# Altium schematic symbol library CONN_3.5MM_STEREO_DBL_VERT_TH.SchLib: 1 symbol
Pins are listed as number, name and electrical type; pins without a type are passive.

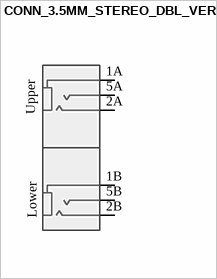
[diagram p0: symbol CONN_3.5MM_STEREO_DBL_VERT_TH]

## CONN_3.5MM_STEREO_DBL_VERT_TH
designator J?, comment 3.5mm DBL
3.50mm (0.141", 1/8", Mini Plug) - Headphone Phone Jack Stereo (3 Conductor, TRS) Connector Solder; Supplier 1: Digi-Key; Supplier Part Number 1: 2092-STX-4235-3/3-N-ND
footprint CONN_3.5MM_STEREO_DBL_VERT_TH
pins: 1A, 1B, 2A, 2B, 5A, 5B
text: Upper; Lower